# Altium footprint library Footprints.PcbLib: 77 footprints (part 5 of 5)
Each footprint in its own frame and in the unit in brackets; x right, y up, seen from the top. Pads: shape width x height; smd on the part's side, far side on the other; paste and mask are expansions set on the pad; w line width, h text height; cw(c..) or ccw(c..) is an arc to the next point about the centre after c.
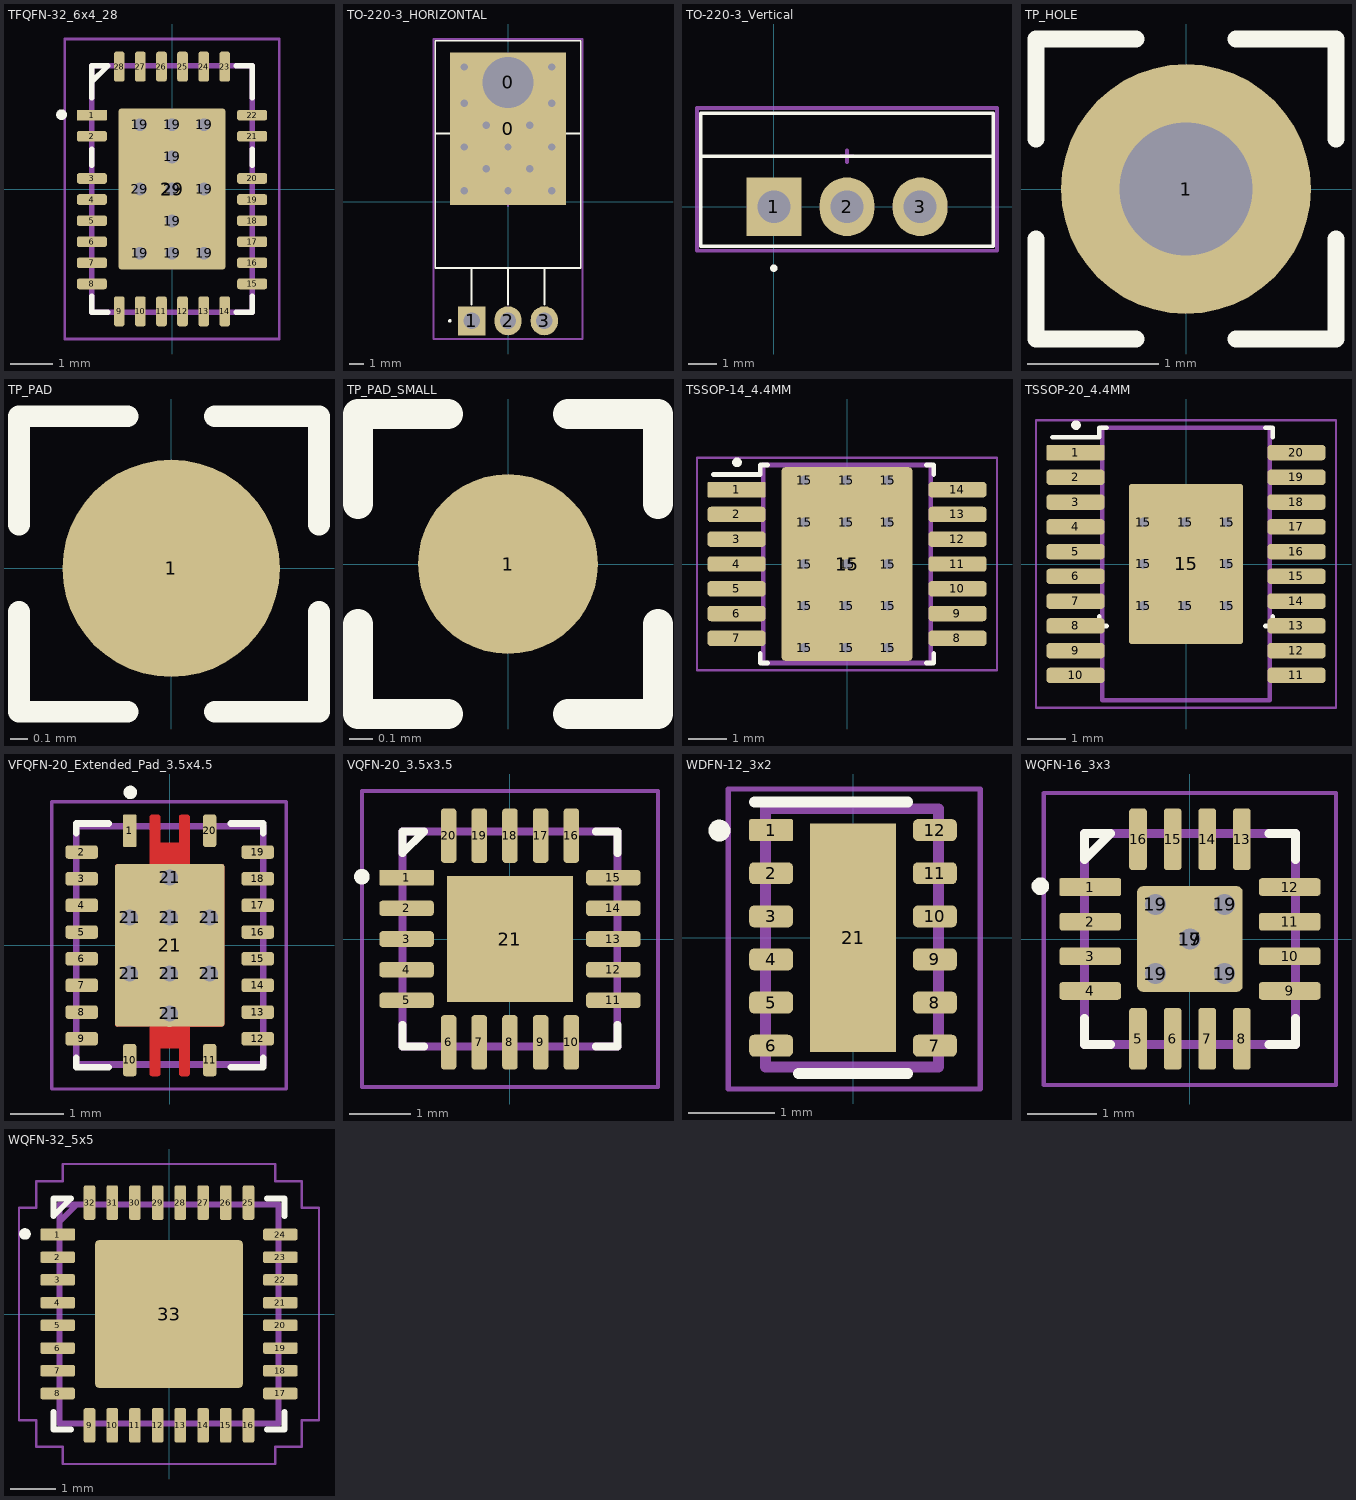
[diagram p4: the footprints below, top view; thin cyan lines are the x and y axes]

## TFQFN-32_6x4_28 [mil]
height 37.01
pads (41):
  rrect15% 28x10 smd: 1(-74.8,68.9)
  rrect45% 28x10 smd: 2(-74.8,49.21) 3(-74.8,9.84) 4(-74.8,-9.84) 5(-74.8,-29.53) 6(-74.8,-49.21) 7(-74.8,-68.9) 8(-74.8,-88.58) 15(74.8,-88.58) 16(74.8,-68.9) 17(74.8,-49.21) 18(74.8,-29.53) 19(74.8,-9.84) 20(74.8,9.84) 21(74.8,49.21) 22(74.8,68.9)
  rrect45% 10x28 smd: 9(-49.21,-114.17) 10(-29.53,-114.17) 11(-9.84,-114.17) 12(9.84,-114.17) 13(29.53,-114.17) 14(49.21,-114.17) 23(49.21,114.17) 24(29.53,114.17) 25(9.84,114.17) 26(-9.84,114.17) 27(-29.53,114.17) 28(-49.21,114.17)
  round 20 hole 12 mask+0: 19(-30,-60) 19(-30,60) 19(0,-60) 19(0,-30) 19(0,30) 19(0,60) 19(30,-60) 19(30,0) 19(30,60) 29(-30,0) 29(0,0)
  rrect5% 100x150 smd paste-999: 29(0,0)
  round 7.5 on Mech8: ""(-74.8,68.9)
Top Overlay:
  circle w5: c-103.11,69.37 r2.5
  lines w5: -75,-100 -75,-115 -60,-115 ; -75,22 -75,37 ; -75,85 -75,115 -60,115 -75,100 ; 60,-115 75,-115 75,-100 ; 60,115 75,115 75,85 ; 75,22 75,37
Top Paste:
  region: 32.5,17.5 -32.5,17.5 -32.5,-17.5 32.5,-17.5
  region: 32.5,-27.5 -32.5,-27.5 -32.5,-62.5 32.5,-62.5
  rectangle: -32.5,27.5 32.5,62.5
Top Designator:
  text "'.Designator'" at -29.66,-49.05 h20
  text "'.Comment'" at 20.49,-49.05 h20
Top Assembly (Mech8):
  lines w5: -8,0 8,0 ; 0,-8 0,8 ; -75,-115 -75,115 75,115 75,-115 -75,-115
Top Courtyard:
  lines w2.5: -100,-140 100,-140 100,140 -100,140 -100,-140

## TO-220-3_HORIZONTAL [mil]
pads (6):
  rect 320x420 smd paste-999: 0(0,200.05)
  rrect100% 140x140 hole 140: 0(0,327.95)
  rect 75x80 hole 45: 1(-100,-327.95)
  rrect100% 75x80 hole 45: 2(0,-327.95) 3(100,-327.95)
  round 7.5 on Mech8: ""(-100,-327.95)
via 120,370 diameter 40 hole 20
via -120,370 diameter 40 hole 20
via -120,30 diameter 40 hole 20
via 120,30 diameter 40 hole 20
via 0,30 diameter 40 hole 20
via -120,270 diameter 40 hole 20
via 120,270 diameter 40 hole 20
via -60,210 diameter 40 hole 20
via 60,210 diameter 40 hole 20
via 120,150 diameter 40 hole 20
via 0,150 diameter 40 hole 20
via -120,150 diameter 40 hole 20
via 60,90 diameter 40 hole 20
via -60,90 diameter 40 hole 20
Top Overlay:
  circle w5: c-160,-328 r2.5
  lines w5: -200,187.05 200,187.05 ; -100,-282.95 -100,-182.95 ; 0,-282.95 0,-182.95 ; 100,-282.95 100,-182.95 ; -200,-182.95 -200,442.05 200,442.05 200,-182.95 -200,-182.95
Top Paste:
  drawing of 205 lines, arcs and shapes, not listed
Top Designator:
  text "'.Designator'" at -129,-102.34 h20
  text "'.Comment'" at -129,-151 h20
Top Assembly (Mech8):
  lines w5: -13,0 13,0 ; 0,-13 0,13 ; -205,-377.95 205,-377.95 205,447.05 -205,447.05 -205,-377.95
3D body "TO-220_horizontal_line.stp": height 183.07, standoff -118.11, extent -206.69,-350.95 206.7,446.29

## TO-220-3_Vertical [mil]
pads (4):
  rect 75x80 hole 45: 1(0,0)
  rrect100% 75x80 hole 45: 2(100,0) 3(200,0)
  round 7.5 on Mech8: ""(0,0)
Top Overlay:
  circle w5: c0,-84 r2.5
  lines w5: -100,69 300,69 ; -100,-54 -100,128 300,128 300,-54 -100,-54
Top Designator:
  text "'.Designator'" at -93,97.66 h20
  text "'.Comment'" at -93,57 h20
Top Assembly (Mech8):
  lines w5: 92,69 108,69 ; 100,61 100,77 ; -105,-60 305,-60 305,135 -105,135 -105,-60
3D body "User Library-mosfet fairchild semi to220 fqpfxxx.step": height 754.19, standoff -393.72, extent -100,-103 300,183.41

## TP_HOLE [mil]
pads (1):
  round 75 hole 40: 1(0,0)
Top Overlay:
  lines w5: -45,-15 -45,-45 -15,-45 ; -45,15 -45,45 -15,45 ; 15,-45 45,-45 45,-15 ; 15,45 45,45 45,15
Top Designator:
  text "'.Comment'" at -38,-26 h20
  text "'.Designator'" at -38,14.66 h20

## TP_PAD [mil]
pads (1):
  round 50 smd paste-999: 1(0,0)
Top Overlay:
  lines w5: -35,-10 -35,-33 -10,-33 ; -35,10 -35,35 -10,35 ; 10,-33 34,-33 34,-10 ; 10,35 34,35 34,10
Top Designator:
  text "'.Comment'" at -28,-36 h20
  text "'.Designator'" at -28,4.66 h20

## TP_PAD_SMALL [mil]
pads (1):
  round 30 smd paste-999: 1(0,0)
Top Overlay:
  lines w5: -25,-10 -25,-25 -10,-25 ; -25,10 -25,25 -10,25 ; 10,-25 25,-25 25,-10 ; 10,25 25,25 25,10
Top Designator:
  text "'.Designator'" at -18,-5.34 h20
  text "'.Comment'" at -18,-46 h20

## TSSOP-14_4.4MM [mil]
height 47.24
pads (31):
  rrect15% 60x16 smd: 1(-114.17,76.77)
  rrect45% 60x16 smd: 2(-114.17,51.18) 3(-114.17,25.59) 4(-114.17,0) 5(-114.17,-25.59) 6(-114.17,-51.18) 7(-114.17,-76.77) 8(114.17,-76.77) 9(114.17,-51.18) 10(114.17,-25.59) 11(114.17,0) 12(114.17,25.59) 13(114.17,51.18) 14(114.17,76.77)
  round 20 hole 10: 15(-44.31,-86.61) 15(-44.31,-43.31) 15(-44.31,0) 15(-44.31,43.31) 15(-44.31,86.61) 15(-1,-86.61) 15(-1,-43.31) 15(-1,43.31) 15(-1,86.61) 15(0,0) 15(42.31,-86.61) 15(42.31,-43.31) 15(42.31,0) 15(42.31,43.31) 15(42.31,86.61)
  rrect5% 135x200 smd: 15(0,0)
  round 7.5 on Mech8: ""(-114.17,76.77)
Top Overlay:
  circle w5: c-113.7,105.08 r2.5
  lines w5: -137.8,92.52 -89.58,92.52 -89.58,102.36 -82.22,102.36 ; -89.58,-92.52 -89.58,-102.36 -82.22,-102.36 ; 82.22,-102.36 89.58,-102.36 89.58,-92.52 ; 82.22,102.36 89.58,102.36 89.58,92.52
Top Designator:
  text "'.Designator'" at -23.63,-94.82 h20
  text "'.Comment'" at 26.52,-94.82 h20
Top Assembly (Mech8):
  lines w5: -8,0 8,0 ; 0,-8 0,8 ; -86.61,-102.36 86.61,-102.36 86.61,102.36 -86.61,102.36 -86.61,-102.36
Top Courtyard:
  lines w2.5: -155,-110 -155,110 155,110 155,-110 -155,-110

## TSSOP-20_4.4MM [mil]
height 43.31
pads (30):
  rrect15% 60x16 smd: 1(-114.17,115.16)
  rrect45% 60x16 smd: 2(-114.17,89.57) 3(-114.17,63.98) 4(-114.17,38.39) 5(-114.17,12.8) 6(-114.17,-12.8) 7(-114.17,-38.39) 8(-114.17,-63.98) 9(-114.17,-89.57) 10(-114.17,-115.16) 11(114.17,-115.16) 12(114.17,-89.57) 13(114.17,-63.98) 14(114.17,-38.39) 15(114.17,-12.8) 16(114.17,12.8) 17(114.17,38.39) 18(114.17,63.98) 19(114.17,89.57) 20(114.17,115.16)
  round 20 hole 10: 15(-44.31,-43.31) 15(-44.31,0) 15(-44.31,43.31) 15(-1,-43.31) 15(-1,43.31) 15(42.31,-43.31) 15(42.31,0) 15(42.31,43.31)
  rrect5% 118.11x165.35 smd: 15(0,0)
  round 7.5 on Mech8: ""(-114.17,115.16)
Top Overlay:
  circle w5: c-113.7,143.46 r2.5
  lines w5: -137.79,130.91 -89.58,130.91 -89.58,140.75 -82.22,140.75 ; -89.58,-54.13 -89.58,-63.98 -82.22,-63.98 ; 82.22,-63.98 89.58,-63.98 89.58,-54.13 ; 82.22,140.75 89.58,140.75 89.58,130.91
Top Designator:
  text "'.Designator'" at -20.68,-107.61 h20
  text "'.Comment'" at 29.47,-107.61 h20
Top Assembly (Mech8):
  lines w5: -8,0 8,0 ; 0,-8 0,8 ; -86.62,-140.75 86.61,-140.75 86.61,140.75 -86.61,140.75 -86.61,-140.75
Top Courtyard:
  lines w2.5: -155,-148.39 -155,148.39 155,148.39 155,-148.39 -155,-148.39

## VFQFN-20_Extended_Pad_3.5x4.5 [mil]
pads (30):
  rrect15% 10x24 smd: 1(-29.53,84.65)
  rrect42% 24x10 smd: 2(-64.96,68.9) 3(-64.96,49.21) 4(-64.96,29.53) 5(-64.96,9.84) 6(-64.96,-9.84) 7(-64.96,-29.53) 8(-64.96,-49.21) 9(-64.96,-68.9) 12(64.96,-68.9) 13(64.96,-49.21) 14(64.96,-29.53) 15(64.96,-9.84) 16(64.96,9.84) 17(64.96,29.53) 18(64.96,49.21) 19(64.96,68.9)
  rrect42% 10x24 smd: 10(-29.53,-84.65) 11(29.53,-84.65) 20(29.53,84.65)
  round 20 hole 12 mask+0: 21(-29.53,-20.67) 21(-29.53,20.67) 21(0,-50.2) 21(0,-20.67) 21(0,20.67) 21(0,50.2) 21(29.53,-20.67) 21(29.53,20.67)
  rrect5% 80.71x120.08 smd paste-118.11: 21(0,0)
  round 7.5 on Mech8: ""(-29.53,84.65)
Top Layer:
  region: 380 vertices and 0 holes, not listed, extent -40.35,-96.46 40.35,96.46
Top Overlay:
  circle w5: c-29.06,112.95 r2.5
  lines w5: -69,-83 -69,-90 -45,-90 ; -69,83 -69,90 -45,90 ; 45,-90 69,-90 69,-83 ; 45,90 69,90 69,83
Top Paste:
  drawing of 8 lines, arcs and shapes, not listed
Top Solder:
  drawing of 1 lines, arcs and shapes, not listed
Top Designator:
  text "'.Designator'" at -21.66,-80.05 h20
  text "'.Comment'" at 28.49,-80.06 h20
Top Assembly (Mech8):
  lines w5: -8,0 8,0 ; 0,-8 0,8 ; -69,-88 -69,88 69,88 69,-88 -69,-88
Top Courtyard:
  lines w2.5: -87,-106 86,-106 86,106 -87,106 -87,-106

## VQFN-20_3.5x3.5 [mil]
pads (22):
  rrect15% 35x10 smd: 1(-66.34,39.37)
  rrect45% 35x10 smd: 2(-66.34,19.68) 3(-66.34,0) 4(-66.34,-19.68) 5(-66.34,-39.37) 11(66.34,-39.37) 12(66.34,-19.68) 13(66.34,0) 14(66.34,19.68) 15(66.34,39.37)
  rrect45% 10x35 smd: 6(-39.37,-66.34) 7(-19.68,-66.34) 8(0,-66.34) 9(19.68,-66.34) 10(39.37,-66.34) 16(39.37,66.34) 17(19.68,66.34) 18(0,66.34) 19(-19.68,66.34) 20(-39.37,66.34)
  rect 80.71x80.71 smd paste-78.74: 21(0,0)
  round 7.5 on Mech8: ""(-66.34,39.37)
Top Overlay:
  circle w5: c-95,40 r2.5
  lines w5: -69,-55 -69,-69 -55,-69 ; 55,-69 69,-69 69,-55 ; 55,69 69,69 69,55 ; -69,55 -55,69 -69,69 -69,55
Top Paste:
  region: 25.59,-25.59 -25.59,-25.59 -25.59,25.59 25.59,25.59
Top Designator:
  text "'.Comment'" at -80.06,-28.49 h20
  text "'.Designator'" at -80.06,21.66 h20
Top Assembly (Mech8):
  lines w5: -69,-69 -68.9,68.9 ; -69,69 68.9,68.9 ; -68.9,-68.9 69,-69 ; -8,0 8,0 ; 0,-8 0,8 ; 68.9,-68.9 69,69
Top Courtyard:
  lines w2.5: -95,-95 95,-95 95,95 -95,95 -95,-95
3D body "step_temp.STEP": height 39.37, standoff 0, extent -68.9,-68.9 68.9,68.9

## WDFN-12_3x2 [mm]
height 0.8
pads (14):
  rrect15% 0.508x0.254 smd: 1(-0.95,1.25)
  rrect45% 0.508x0.254 smd: 2(-0.95,0.75) 3(-0.95,0.25) 4(-0.95,-0.25) 5(-0.95,-0.75) 6(-0.95,-1.25) 7(0.95,-1.25) 8(0.95,-0.75) 9(0.95,-0.25) 10(0.95,0.25) 11(0.95,0.75) 12(0.95,1.25)
  rect 1x2.65 smd paste-2: 21(0,0)
  round 0.191 on Mech8: ""(-0.95,1.25)
Top Overlay:
  circle w0.127: c-1.549,1.245 r0.064
  lines w0.127: -1.143,1.575 0.635,1.575 ; -0.635,-1.575 0.635,-1.575
Top Paste:
  region: 0.65,-0.65 -0.65,-0.65 -0.65,0.65 0.65,0.65
Top Designator:
  text "'.Comment'" at -2.033,-0.724 h0.51
  text "'.Designator'" at -2.033,0.55 h0.51
Top Assembly (Mech8):
  lines w0.127: -0.203,0 0.203,0 ; 0,-0.203 0,0.203 ; -1.017,-1.498 0.989,-1.499 0.992,1.498 -1.015,1.499 -1.017,-1.498
Top Courtyard:
  lines w0.064: -1.448,-1.753 -1.448,1.727 1.473,1.727 1.473,-1.753 -1.448,-1.753
3D body "DSS0012C.stp": height 0.8, standoff 0, extent -1,-1.5 1,1.5

## WQFN-16_3x3 [mil]
height 31.5
pads (23):
  rrect15% 35x10 smd: 1(-56.69,29.53)
  rrect33% 35x10 smd: 2(-56.69,9.84) 3(-56.69,-9.84) 4(-56.69,-29.53) 9(56.69,-29.53) 10(56.69,-9.84) 11(56.69,9.84) 12(56.69,29.53)
  rrect33% 10x35 smd: 5(-29.53,-56.69) 6(-9.84,-56.69) 7(9.84,-56.69) 8(29.53,-56.69) 13(29.53,56.69) 14(9.84,56.69) 15(-9.84,56.69) 16(-29.53,56.69)
  rrect10% 60x60 smd paste-5: 17(0,0)
  round 20 hole 12 mask+0: 19(-19.68,-19.68) 19(-19.68,19.68) 19(0,0) 19(19.68,-19.68) 19(19.68,19.68)
  round 7.5 on Mech8: ""(-56.69,29.53)
Top Overlay:
  circle w5: c-85,30 r2.5
  lines w5: -60,-45 -60,-60 -45,-60 ; 45,-60 60,-60 60,-45 ; 45,60 60,60 60,45 ; -60,45 -45,60 -60,60 -60,45
Top Designator:
  text "'.Designator'" at -78.06,20.16 h20
  text "'.Comment'" at -78.06,-29.99 h20
Top Assembly (Mech8):
  lines w5: -8,0 8,0 ; 0,-8 0,8 ; -60,-60 60,-60 60,60 -60,60 -60,-60
Top Courtyard:
  lines w2.5: -83,-83 83,-83 83,83 -83,83 -83,-83
3D body "step_temp.STEP": height 29.53, standoff -1.97, extent -59.06,-59.06 59.06,59.06

## WQFN-32_5x5 [mil] "QFN-32 (5x5)"
height 32
pads (34):
  rrect10% 30x10 smd: 1(-96.5,68.9)
  rrect33% 30x10 smd: 2(-96.5,49.21) 3(-96.5,29.53) 4(-96.5,9.84) 5(-96.5,-9.84) 6(-96.5,-29.53) 7(-96.5,-49.21) 8(-96.5,-68.9) 17(96.5,-68.9) 18(96.5,-49.21) 19(96.5,-29.53) 20(96.5,-9.84) 21(96.5,9.84) 22(96.5,29.53) 23(96.5,49.21) 24(96.5,68.9)
  rrect33% 10x30 smd: 9(-68.9,-96.5) 10(-49.21,-96.5) 11(-29.53,-96.5) 12(-9.84,-96.5) 13(9.84,-96.5) 14(29.53,-96.5) 15(49.21,-96.5) 16(68.9,-96.5) 25(68.9,96.5) 26(49.21,96.5) 27(29.53,96.5) 28(9.84,96.5) 29(-9.84,96.5) 30(-29.53,96.5) 31(-49.21,96.5) 32(-68.9,96.5)
  rrect5% 128x128 smd paste-99999: 33(0,0)
  round 7.5 on Mech8: ""(-96.5,68.9)
Top Overlay:
  circle w5: c-124.81,69.37 r2.5
  lines w5: -100,-85 -100,-100 -85,-100 ; 85,-100 100,-100 100,-85 ; 85,100 100,100 100,85 ; -100,85 -85,100 -100,100 -100,85
Top Paste:
  region: 60.06,-3.94 3.94,-3.94 3.94,-60.06 60.06,-60.06
  region: 60.06,60.06 3.94,60.06 3.94,3.94 60.06,3.94
  region: -3.94,-3.94 -60.06,-3.94 -60.06,-60.06 -3.94,-60.06
  region: -3.94,60.06 -60.06,60.06 -60.06,3.94 -3.94,3.94
Top Designator:
  text "'.Designator'" at -113.3,-8.33 h20
Top Assembly (Mech8):
  lines w5: -95,80 -80,95 ; -8,0 8,0 ; 0,-8 0,8 ; -95,-95 -95,95 95,95 95,-95 -95,-95
Top Courtyard:
  lines w2: -130,-92 -130,92 -115,92 -115,115 -92,115 -92,130 92,130 92,115 115,115 115,92 130,92 130,-92 115,-92 115,-115 92,-115 92,-130 -92,-130 -92,-115 -115,-115 -115,-92 -130,-92
3D body "CP_32_2_ADI.step": height 39.09, standoff 0, extent -98.5,-98.5 98.5,98.5